# EAGLE library part AO4805 (library Alpha Omega)
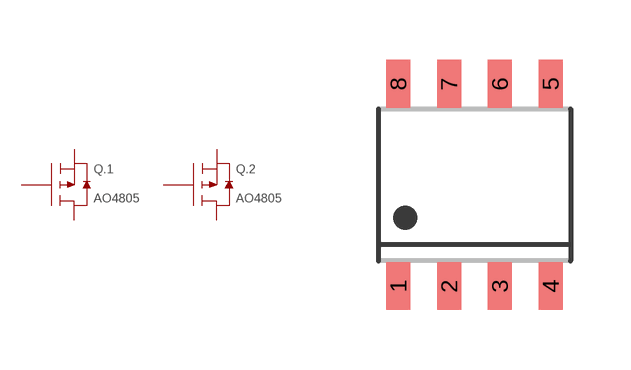
[diagram p1: symbol with the pads of SOIC8; footprint SOIC8]

Designator prefix Q; gates .1=PMOS .2=PMOS

## AO4805  [SOIC8]
1  .1:S  pas
2  .1:G  pas
3  .2:S  pas
4  .2:G  pas
5  .2:D  pas
6  .2:D  pas
7  .1:D  pas
8  .1:D  pas

## Footprint SOIC8 (pad centres in mm)
smd 0.6 x 1.194: 1 -1.905,-2.527; 2 -0.635,-2.527; 3 0.635,-2.527; 4 1.905,-2.527; 5 1.905,2.527; 6 0.635,2.527; 7 -0.635,2.527; 8 -1.905,2.527